# Altium footprint library TE_Connectivity.PcbLib: 6 footprints
Each footprint in its own frame and in the unit in brackets; x right, y up, seen from the top. Pads: shape width x height; smd on the part's side, far side on the other; paste and mask are expansions set on the pad; w line width, h text height; cw(c..) or ccw(c..) is an arc to the next point about the centre after c.
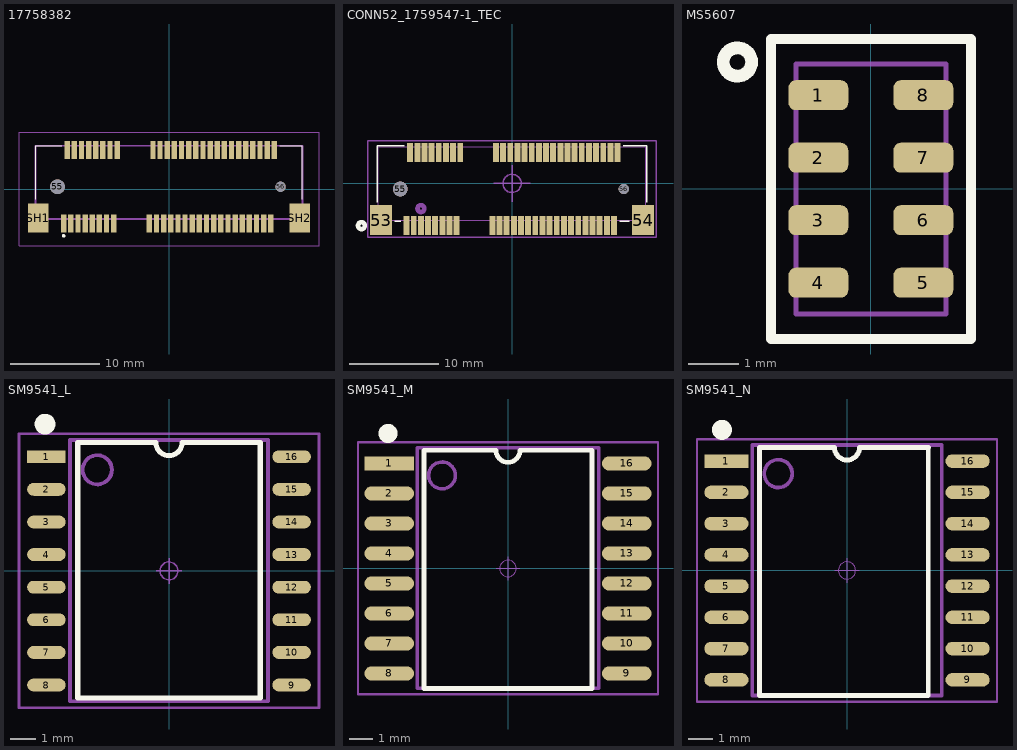
[diagram p0: the footprints below, top view; thin cyan lines are the x and y axes]

## 17758382 [mm]
pads (56):
  rect 0.6x2 smd: 1(-11.8,-3.85) 2(-11.4,4.35) 3(-11,-3.85) 4(-10.6,4.35) 5(-10.2,-3.85) 6(-9.8,4.35) 7(-9.4,-3.85) 8(-9,4.35) 9(-8.6,-3.85) 10(-8.2,4.35) 11(-7.8,-3.85) 12(-7.4,4.35) 13(-7,-3.85) 14(-6.6,4.35) 15(-6.2,-3.85) 16(-5.8,4.35) 17(-2.2,-3.85) 18(-1.8,4.35) 19(-1.4,-3.85) 20(-1,4.35) 21(-0.6,-3.85) 22(-0.2,4.35) 23(0.2,-3.85) 24(0.6,4.35) 25(1,-3.85) 26(1.4,4.35) 27(1.8,-3.85) 28(2.2,4.35) 29(2.6,-3.85) 30(3,4.35) 31(3.4,-3.85) 32(3.8,4.35) 33(4.2,-3.85) 34(4.6,4.35) 35(5,-3.85) 36(5.4,4.35) 37(5.8,-3.85) 38(6.2,4.35) 39(6.6,-3.85) 40(7,4.35) 41(7.4,-3.85) 42(7.8,4.35) 43(8.2,-3.85) 44(8.6,4.35) 45(9,-3.85) 46(9.4,4.35) 47(9.8,-3.85) 48(10.2,4.35) 49(10.6,-3.85) 50(11,4.35) 51(11.4,-3.85) 52(11.8,4.35)
  round 1.65 hole 1.65: 55(-12.5,0.25)
  round 1.15 hole 1.15: 56(12.5,0.25)
  rect 2.3x3.2 smd: SH1(-14.65,-3.25) SH2(14.65,-3.25)
Top Overlay:
  lines w0.1: -14.95,-1.15 -14.95,4.85 -12,4.85 ; 12.4,4.85 14.95,4.85 14.95,-1.15
  lines w0.2: -11.9,-5.25 cw(c-11.8,-5.25) -11.7,-5.25 cw(c-11.8,-5.25) -11.9,-5.25
Mechanical 13:
  lines w0.2: -14.95,-3.35 14.95,-3.35 14.95,4.85 -14.95,4.85 -14.95,-3.35
Mechanical 15:
  lines w0.1: -16.8,-6.35 16.8,-6.35 16.8,6.35 -16.8,6.35 -16.8,-6.35
3D body "1775838-2.stp": height 5.68, standoff -0.58, extent -14.95,-4.54 14.95,4.54

## CONN52_1759547-1_TEC [mil]
pads (56):
  rect 26x83 smd paste+0 mask+0: 1(-464.57,-186) 2(-448.82,136.83) 3(-433.07,-186) 4(-417.32,136.83) 5(-401.57,-186) 6(-385.83,136.83) 7(-370.08,-186) 8(-354.33,136.83) 9(-338.58,-186) 10(-322.83,136.83) 11(-307.09,-186) 12(-291.34,136.83) 13(-275.59,-186) 14(-259.84,136.83) 15(-244.09,-186) 16(-228.35,136.83) 17(-86.61,-186) 18(-70.87,136.83) 19(-55.12,-186) 20(-39.37,136.83) 21(-23.62,-186) 22(-7.87,136.83) 23(7.87,-186) 24(23.62,136.83) 25(39.37,-186) 26(55.12,136.83) 27(70.87,-186) 28(86.61,136.83) 29(102.36,-186) 30(118.11,136.83) 31(133.86,-186) 32(149.61,136.83) 33(165.35,-186) 34(181.1,136.83) 35(196.85,-186) 36(212.6,136.83) 37(228.35,-186) 38(244.09,136.83) 39(259.84,-186) 40(275.59,136.83) 41(291.34,-186) 42(307.09,136.83) 43(322.83,-186) 44(338.58,136.83) 45(354.33,-186) 46(370.08,136.83) 47(385.83,-186) 48(401.57,136.83) 49(417.32,-186) 50(433.07,136.83) 51(448.82,-186) 52(464.57,136.83)
  rect 96x132 smd: 53(-576.77,-161.5) 54(576.77,-161.5)
  round 65 hole 65 unplated: 55(-492.13,-24.58)
  round 45 hole 45 unplated: 56(492.13,-24.58)
Top Overlay:
  circle w20: c-663.5,-186 r15
  lines w6: -593.5,-82.4 -593.5,166.5 -474.92,166.5 ; -515.67,-166.5 -490.67,-166.5 ; 474.92,-166.5 515.67,-166.5 ; 490.67,166.5 593.5,166.5 593.5,-82.4
Bottom Overlay:
  circle w20: c-663.5,-186 r15
Mechanical 13:
  circle w20: c-401.57,-111 r15
  lines w1: -588.5,-161.5 588.5,-161.5 588.5,161.5 -588.5,161.5 -588.5,-161.5
Mechanical 15:
  circle w6: c0,0 r40
  lines w6: -80,0 80,0 ; 0,-80 0,80 ; -634.77,-237.5 -634.77,188.33 634.77,188.33 634.77,-237.5 -634.77,-237.5
3D body "c-1759547-1-j-3d.stp": height 274.81, standoff -26.37, extent -588.58,-201.77 588.58,156.5

## MS5607 [mm]
pads (8):
  rrect50% 1.2x0.6 smd: 1(-1.05,1.875) 2(-1.05,0.625) 3(-1.05,-0.625) 4(-1.05,-1.875) 5(1.05,-1.875) 6(1.05,-0.625) 7(1.05,0.625) 8(1.05,1.875)
Top Overlay:
  circle w0.254: c-2.667,2.54 r0.284
  lines w0.2: -2,-3 -2,3 2,3 2,-3 -2,-3
Mechanical 15:
  lines w0.1: -1.5,-2.5 1.5,-2.5 1.5,2.5 -1.5,2.5 -1.5,-2.5
3D body "c-cat-blps0035-a-3d.stp": height 0.95, standoff 0, extent -1.5,-2.5 1.5,2.5

## SM9541_L [mm] "10.3*10.3*2.6mm（长宽高）"
height 1.75
pads (16):
  rect 1.5x0.5 smd: 1(-4.775,4.445)
  oval 1.5x0.5 smd: 2(-4.775,3.175) 3(-4.775,1.905) 4(-4.775,0.635) 5(-4.775,-0.635) 6(-4.775,-1.905) 7(-4.775,-3.175) 8(-4.775,-4.445) 9(4.775,-4.445) 10(4.775,-3.175) 11(4.775,-1.905) 12(4.775,-0.635) 13(4.775,0.635) 14(4.775,1.905) 15(4.775,3.175) 16(4.775,4.445)
Top Overlay:
  circle w0.5: c-4.826,5.715 r0.155
  lines w0.2: -3.556,5 -3.556,-4.953 3.556,-4.953 3.556,5
  lines w0.203: -3.556,5 -0.508,5 ccw(c0,5) 0,4.492 ccw(c0,5) 0.508,5 3.556,5
Mechanical 13:
  circle w0.15: c-2.794,3.937 r0.568
  lines w0.15: -3.85,-5.08 -3.85,5.1 3.85,5.1 3.85,-5.08 -3.85,-5.08
Mechanical 15:
  circle w0.05: c0,0 r0.35
  lines w0.05: -0.5,0 0.5,0 ; 0,-0.5 0,0.5
  lines w0.1: -5.842,-5.334 5.842,-5.334 5.842,5.334 -5.842,5.334 -5.842,-5.334
3D body "User Library-SM93xx.STEP": height 9.32, standoff 0, extent -5.181,-5.13 5.181,5.13

## SM9541_M [mm] "10.3*10.3*2.6mm（长宽高）"
height 1.75
pads (16):
  rect 2.1x0.6 smd: 1(-5.025,4.445)
  oval 2.1x0.6 smd: 2(-5.025,3.175) 3(-5.025,1.905) 4(-5.025,0.635) 5(-5.025,-0.635) 6(-5.025,-1.905) 7(-5.025,-3.175) 8(-5.025,-4.445) 9(5.025,-4.445) 10(5.025,-3.175) 11(5.025,-1.905) 12(5.025,-0.635) 13(5.025,0.635) 14(5.025,1.905) 15(5.025,3.175) 16(5.025,4.445)
Top Overlay:
  circle w0.5: c-5.08,5.715 r0.155
  lines w0.2: -3.556,5 -3.556,-5.08 3.556,-5.08 3.556,5
  lines w0.203: -3.556,5 -0.508,5 ccw(c0,5) 0,4.492 ccw(c0,5) 0.508,5 3.556,5
Mechanical 13:
  circle w0.15: c-2.794,3.937 r0.568
  lines w0.15: -3.85,-5.08 3.85,-5.08 3.85,5.1 -3.85,5.1 -3.85,-5.08
Mechanical 15:
  circle w0.05: c0,0 r0.35
  lines w0.05: -0.5,0 0.5,0 ; 0,-0.5 0,0.5
  lines w0.1: -6.35,-5.334 -6.35,5.334 6.35,5.334 6.35,-5.334 -6.35,-5.334
3D body "User Library-SM93xx.STEP": height 9.32, standoff 0, extent -5.181,-5.13 5.181,5.13

## SM9541_N [mm] "10.3*10.3*2.6mm（长宽高）"
height 1.75
pads (16):
  rect 1.8x0.55 smd: 1(-4.9,4.445)
  oval 1.8x0.55 smd: 2(-4.9,3.175) 3(-4.9,1.905) 4(-4.9,0.635) 5(-4.9,-0.635) 6(-4.9,-1.905) 7(-4.9,-3.175) 8(-4.9,-4.445) 9(4.9,-4.445) 10(4.9,-3.175) 11(4.9,-1.905) 12(4.9,-0.635) 13(4.9,0.635) 14(4.9,1.905) 15(4.9,3.175) 16(4.9,4.445)
Top Overlay:
  circle w0.5: c-5.08,5.715 r0.155
  lines w0.2: -3.556,5 -3.556,-5.08 3.302,-5.08 3.302,5
  lines w0.203: -3.556,5 -0.508,5 ccw(c0,5) 0,4.492 ccw(c0,5) 0.508,5 3.302,5
Mechanical 13:
  circle w0.15: c-2.794,3.937 r0.568
  lines w0.15: -3.85,-5.08 3.85,-5.08 3.85,5.1 -3.85,5.1 -3.85,-5.08
Mechanical 15:
  circle w0.05: c0,0 r0.35
  lines w0.05: -0.5,0 0.5,0 ; 0,-0.5 0,0.5
  lines w0.1: -6.096,-5.334 6.096,-5.334 6.096,5.334 -6.096,5.334 -6.096,-5.334
3D body "User Library-SM93xx.STEP": height 9.32, standoff 0, extent -5.181,-5.13 5.181,5.13